# Altium schematic symbol library SCH - AMP AUDIO - ANALOG SSM6322ACPZ-R2.SchLib: 1 symbol
Pins are listed as number, name and electrical type; pins without a type are passive.

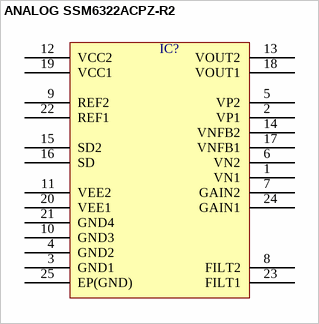
[diagram p0: symbol ANALOG SSM6322ACPZ-R2]

## ANALOG SSM6322ACPZ-R2
designator IC?  (value not drawn)
pins: 1 VN1, 2 VP1, 3 GND1, 4 GND2, 5 VP2, 6 VN2, 7 GAIN2, 8 FILT2, 9 REF2, 10 GND3, 11 VEE2, 12 VCC2, 13 VOUT2, 14 VNFB2, 15 SD2, 16 SD, 17 VNFB1, 18 VOUT1, 19 VCC1, 20 VEE1, 21 GND4, 22 REF1, 23 FILT1, 24 GAIN1, 25 EP(GND)